# EAGLE library part REG710 (library DCDC)
REG710xx Buck-Boost Charge Pump with up to 60-mA Output Current
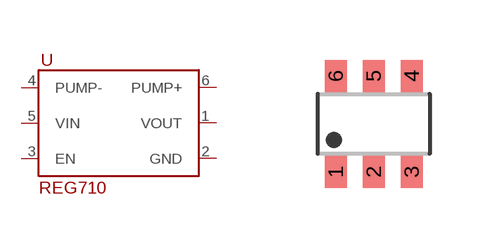
[diagram p0: symbol with the pads of SOT457; footprint SOT457]

Designator prefix U

## REG710  [SOT457]
1  VOUT
2  GND
3  EN
4  PUMP-
5  VIN
6  PUMP+

## Footprint SOT457 (pad centres in mm)
SOT457 TSOP6: Plastic surface-mounted package; 6 lead JEIDA: SC73 A.K.A. SOT23-6 (Body span 1.6, tot width 3.2mm, 0.95mm between legs)
smd 0.55 x 0.8: 1 -0.95,-1.2; 2 0,-1.2; 3 0.95,-1.2; 4 0.95,1.2; 5 0,1.2; 6 -0.95,1.2